# Altium integrated library Mosfet.IntLib: 3 symbols
Pins are listed as number, name and electrical type; pins without a type are passive.

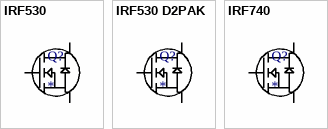
[diagram p0: symbols IRF530 to IRF740]

## IRF530
designator Q?
N Kanal Power Mosfet TO-220
footprint IRF530
pins: D, G, S

## IRF530 D2PAK
designator Q?
N Kanal Power Mosfet D2PAK
footprint IRF530NSTRLPBF
pins: D, G, S

## IRF740
designator Q?
N Kanal Power Mosfet TO-220
footprint IRF740 (N Kanal Power Mosfet TO-220)
pins: D, G, S